# Altium schematic symbol library Infineon Transistor & Diode.SchLib: 376 symbols (part 6 of 10)
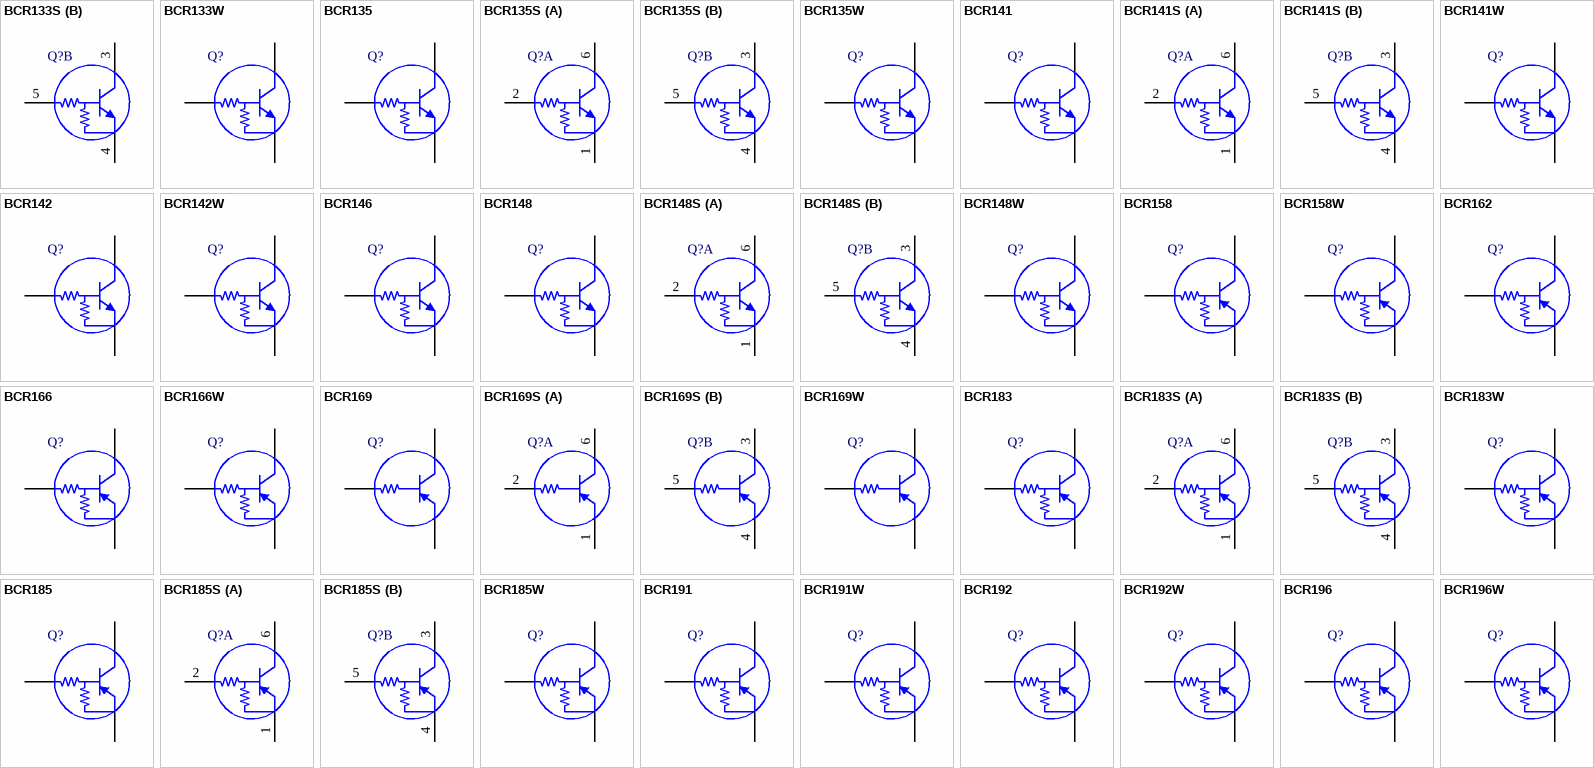
[diagram p15: symbols BCR133S to BCR196W]

## BCR166W
designator Q?
PNP Silicon Digital Transistor, 50 V VCEO, 100 mA IC, SOT323, Reel, Green; Manufacturer: Infineon; PartNumber: BCR166W; fT (typ): 160 MHz; Green: TRUE; hFE (min): 70; IC (max): 100 mA; ICBO (max): 100 nA; Ptot (max): 250 mW; R1 (typ): 4.7 kOhm; R2: 47 kOhm; VCBO (max): 50 V; VEBO (max): 5 V; Vi (off) (max): 0.8 100uA / 5V; Vi (on) (max): 1.4 V; Vi (on) (min): 0.5 2mA / 0.3V; PackageReference: SOT323; PackageDescription: 3-Pin Small Outline Transistor Package, 1.25 x 2 mm Body, 0.65 mm Pitch; Supplier 1: Mouser; Supplier Part Number 1: N/A; Halogen-free: TRUE; Packing: Reel; Polarity: PNP; VCEO (max): 50 V; Mounting Technology: Surface Mount; ComponentLink1Description: Manufacturer URL; ComponentLink1URL: http://www.infineon.com/; ComponentLink2Description: Datasheet; ComponentLink2URL: http://www.infineon.com/dgdl/bcr166series.pdf?folderId=db3a30431400ef68011406f3ddb1012e&fileId=db3a30431428a3730114402db36002d0; ComponentLink3Description: Package Specification; ComponentLink3URL: http://www.infineon.com/dgdl/SOT323-Package_Overview.pdf?folderId=db3a30431936bc4b0119533e1dcb3c92&fileId=db3a30431936bc4b011953495f283cb1
footprint INF-SOT323_N (SOT23, 3-Leads, Body 2x1.25 mm, Pitch 0.65 mm, IPC Medium Density)
footprint INF-SOT323_L (SOT23, 3-Leads, Body 2x1.25 mm, Pitch 0.65 mm, IPC High Density)
footprint INF-SOT323_M (SOT23, 3-Leads, Body 2x1.25 mm, Pitch 0.65 mm, IPC Low Density)
pins: 1 B, 2 E, 3 C

## BCR169
designator Q?
PNP Silicon Digital Transistor, 50 V VCEO, 100 mA IC, SOT23, Reel, Green; Manufacturer: Infineon; PartNumber: BCR169; fT (typ): 200 MHz; Green: TRUE; hFE (min): 120; IC (max): 100 mA; ICBO (max): 100 nA; Ptot (max): 200 mW; R1 (typ): 4.7 kOhm; VCBO (max): 50 V; VEBO (max): 5 V; Vi (off) (max): 0.8 100uA / 5V; Vi (on) (max): 1.1 V; Vi (on) (min): 0.5 2mA / 0.3V; PackageVersion: Apr-08; PackageReference: SOT23; PackageDescription: 3-Pin Small Outline Transistor Package, 1.3 x 2.9 mm Body, 0.95 mm Pitch; Supplier 1: Mouser; Supplier Part Number 1: N/A; Packing: Reel; Polarity: PNP; VCEO (max): 50 V; Mounting Technology: Surface Mount; ComponentLink1Description: Manufacturer URL; ComponentLink1URL: http://www.infineon.com/; ComponentLink2Description: Datasheet; ComponentLink2URL: http://www.infineon.com/dgdl/bcr169series.pdf?folderId=db3a30431400ef68011406f3ddb1012e&fileId=db3a30431428a373011440313bb302d1; ComponentLink3Description: Package Specification; ComponentLink3URL: http://www.infineon.com/dgdl/SOT23-Package_Overview.pdf?folderId=db3a30431936bc4b0119532290053c66&fileId=db3a30431936bc4b0119533468123c85
footprint INF-SOT23_N (SOT23, 3-Leads, Body 2.9x1.3 mm, Pitch 0.95 mm, IPC Medium Density)
footprint INF-SOT23_L (SOT23, 3-Leads, Body 2.9x1.3 mm, Pitch 0.95 mm, IPC High Density)
footprint INF-SOT23_M (SOT23, 3-Leads, Body 2.9x1.3 mm, Pitch 0.95 mm, IPC Low Density)
pins: 1 B, 2 E, 3 C

## BCR169S
designator Q?
PNP Silicon Digital Transistor, 50 V VCEO, 100 mA IC, SOT363, Reel, Green; Manufacturer: Infineon; PartNumber: BCR169S; fT (typ): 200 MHz; Green: TRUE; hFE (min): 120; IC (max): 100 mA; ICBO (max): 100 nA; Ptot (max): 250 mW; R1 (typ): 4.7 kOhm; VCBO (max): 50 V; VEBO (max): 5 V; Vi (off) (max): 0.8 100uA / 5V; Vi (on) (max): 1.1 V; Vi (on) (min): 0.5 2mA / 0.3V; PackageReference: SOT363; PackageDescription: 6-Pin Small Outline Transistor Package, 1.25 x 2 mm Body; Supplier 1: Mouser; Supplier Part Number 1: N/A; Halogen-free: TRUE; Packing: Reel; Polarity: PNP; VCEO (max): 50 V; Mounting Technology: Surface Mount; ComponentLink1Description: Manufacturer URL; ComponentLink1URL: http://www.infineon.com/; ComponentLink2Description: Datasheet; ComponentLink2URL: http://www.infineon.com/dgdl/bcr169series.pdf?folderId=db3a30431428a37301144053a52002e2&fileId=db3a30431428a37301144063498902f9; ComponentLink3Description: Package Specification; ComponentLink3URL: http://www.infineon.com/dgdl/SOT363-Package_Overview.pdf?folderId=db3a30431936bc4b01195360bd8f3cdc&fileId=db3a30431936bc4b0119536b62bf3cf5
footprint INF-SOT363_V (SOT23, 6-Leads, Body 2x1.25 mm, Pitch 0.65 mm)
part A pins: 1 E1, 2 B1, 6 C1
part B pins: 3 C2, 4 E2, 5 B2

## BCR169W
designator Q?
PNP Silicon Digital Transistor, 50 V VCEO, 100 mA IC, SOT323, Reel, Green; Manufacturer: Infineon; PartNumber: BCR169W; fT (typ): 200 MHz; Green: TRUE; hFE (min): 120; IC (max): 100 mA; ICBO (max): 100 nA; Ptot (max): 250 mW; R1 (typ): 4.7 kOhm; VCBO (max): 50 V; VEBO (max): 5 V; Vi (off) (max): 0.8 100uA / 5V; Vi (on) (max): 1.1 V; Vi (on) (min): 0.5 2mA / 0.3V; PackageReference: SOT323; PackageDescription: 3-Pin Small Outline Transistor Package, 1.25 x 2 mm Body, 0.65 mm Pitch; Supplier 1: Mouser; Supplier Part Number 1: N/A; Halogen-free: TRUE; Packing: Reel; Polarity: PNP; VCEO (max): 50 V; Mounting Technology: Surface Mount; ComponentLink1Description: Manufacturer URL; ComponentLink1URL: http://www.infineon.com/; ComponentLink2Description: Datasheet; ComponentLink2URL: http://www.infineon.com/dgdl/bcr169series.pdf?folderId=db3a30431400ef68011406f3ddb1012e&fileId=db3a30431428a373011440313bb302d1; ComponentLink3Description: Package Specification; ComponentLink3URL: http://www.infineon.com/dgdl/SOT323-Package_Overview.pdf?folderId=db3a30431936bc4b0119533e1dcb3c92&fileId=db3a30431936bc4b011953495f283cb1
footprint INF-SOT323_N (SOT23, 3-Leads, Body 2x1.25 mm, Pitch 0.65 mm, IPC Medium Density)
footprint INF-SOT323_L (SOT23, 3-Leads, Body 2x1.25 mm, Pitch 0.65 mm, IPC High Density)
footprint INF-SOT323_M (SOT23, 3-Leads, Body 2x1.25 mm, Pitch 0.65 mm, IPC Low Density)
pins: 1 B, 2 E, 3 C

## BCR183
designator Q?
PNP Silicon Digital Transistor, 50 V VCEO, 100 mA IC, SOT23, Reel, Green; Manufacturer: Infineon; PartNumber: BCR183; fT (typ): 200 MHz; Green: TRUE; hFE (min): 30; IC (max): 100 mA; ICBO (max): 100 nA; Ptot (max): 200 mW; R1 (typ): 10 kOhm; VCBO (max): 50 V; VEBO (max): 10 V; Vi (off) (max): 1.8 100uA / 5V; Vi (on) (max): 2.5 V; Vi (on) (min): 1 2mA / 0.3V; PackageVersion: Apr-08; PackageReference: SOT23; PackageDescription: 3-Pin Small Outline Transistor Package, 1.3 x 2.9 mm Body, 0.95 mm Pitch; Packing: Reel; Polarity: PNP; R2: 10 kOhm; VCEO (max): 50 V; Mounting Technology: Surface Mount; ComponentLink1Description: Manufacturer URL; ComponentLink1URL: http://www.infineon.com/; ComponentLink2Description: Datasheet; ComponentLink2URL: http://www.infineon.com/dgdl/bcr183series.pdf?folderId=db3a30431400ef68011406f3ddb1012e&fileId=db3a30431428a37301144036c8c902d3; ComponentLink3Description: Package Specification; ComponentLink3URL: http://www.infineon.com/dgdl/SOT23-Package_Overview.pdf?folderId=db3a30431936bc4b0119532290053c66&fileId=db3a30431936bc4b0119533468123c85
footprint INF-SOT23_N (SOT23, 3-Leads, Body 2.9x1.3 mm, Pitch 0.95 mm, IPC Medium Density)
footprint INF-SOT23_L (SOT23, 3-Leads, Body 2.9x1.3 mm, Pitch 0.95 mm, IPC High Density)
footprint INF-SOT23_M (SOT23, 3-Leads, Body 2.9x1.3 mm, Pitch 0.95 mm, IPC Low Density)
pins: 1 B, 2 E, 3 C

## BCR183S
designator Q?
PNP Silicon Digital Transistor, 50 V VCEO, 100 mA IC, SOT363, Reel, Green; Manufacturer: Infineon; PartNumber: BCR183S; fT (typ): 200 MHz; Green: TRUE; hFE (min): 30; IC (max): 100 mA; ICBO (max): 100 nA; Ptot (max): 250 mW; R1 (typ): 10 kOhm; VCBO (max): 50 V; VEBO (max): 10 V; Vi (off) (max): 1.8 100uA / 5V; Vi (on) (max): 2.5 V; Vi (on) (min): 1 2mA / 0.3V; PackageReference: SOT363; PackageDescription: 6-Pin Small Outline Transistor Package, 1.25 x 2 mm Body; Supplier 1: Mouser; Supplier Part Number 1: N/A; Halogen-free: TRUE; Packing: Reel; Polarity: PNP; R2: 10 kOhm; VCEO (max): 50 V; Mounting Technology: Surface Mount; ComponentLink1Description: Manufacturer URL; ComponentLink1URL: http://www.infineon.com/; ComponentLink2Description: Datasheet; ComponentLink2URL: http://www.infineon.com/dgdl/bcr183series.pdf?folderId=db3a30431428a37301144053a52002e2&fileId=db3a30431428a3730114406488c302fa; ComponentLink3Description: Package Specification; ComponentLink3URL: http://www.infineon.com/dgdl/SOT363-Package_Overview.pdf?folderId=db3a30431936bc4b01195360bd8f3cdc&fileId=db3a30431936bc4b0119536b62bf3cf5
footprint INF-SOT363_V (SOT23, 6-Leads, Body 2x1.25 mm, Pitch 0.65 mm)
part A pins: 1 E1, 2 B1, 6 C1
part B pins: 3 C2, 4 E2, 5 B2

## BCR183W
designator Q?
PNP Silicon Digital Transistor, 50 V VCEO, 100 mA IC, SOT323, Reel, Green; Manufacturer: Infineon; PartNumber: BCR183W; fT (typ): 200 MHz; Green: TRUE; hFE (min): 30; IC (max): 100 mA; ICBO (max): 100 nA; Ptot (max): 250 mW; R1 (typ): 10 kOhm; VCBO (max): 50 V; VEBO (max): 10 V; Vi (off) (max): 1.8 100uA / 5V; Vi (on) (max): 2.5 V; Vi (on) (min): 1 2mA / 0.3V; PackageReference: SOT323; PackageDescription: 3-Pin Small Outline Transistor Package, 1.25 x 2 mm Body, 0.65 mm Pitch; Supplier 1: Mouser; Supplier Part Number 1: N/A; Halogen-free: TRUE; Packing: Reel; Polarity: PNP; R2: 10 kOhm; VCEO (max): 50 V; Mounting Technology: Surface Mount; ComponentLink1Description: Manufacturer URL; ComponentLink1URL: http://www.infineon.com/; ComponentLink2Description: Datasheet; ComponentLink2URL: http://www.infineon.com/dgdl/bcr183series.pdf?folderId=db3a30431400ef68011406f3ddb1012e&fileId=db3a30431428a37301144036c8c902d3; ComponentLink3Description: Package Specification; ComponentLink3URL: http://www.infineon.com/dgdl/SOT323-Package_Overview.pdf?folderId=db3a30431936bc4b0119533e1dcb3c92&fileId=db3a30431936bc4b011953495f283cb1
footprint INF-SOT323_N (SOT23, 3-Leads, Body 2x1.25 mm, Pitch 0.65 mm, IPC Medium Density)
footprint INF-SOT323_L (SOT23, 3-Leads, Body 2x1.25 mm, Pitch 0.65 mm, IPC High Density)
footprint INF-SOT323_M (SOT23, 3-Leads, Body 2x1.25 mm, Pitch 0.65 mm, IPC Low Density)
pins: 1 B, 2 E, 3 C

## BCR185
designator Q?
PNP Silicon Digital Transistor, 50 V VCEO, 100 mA IC, SOT23, Reel, Green; Manufacturer: Infineon; PartNumber: BCR185; fT (typ): 200 MHz; Green: TRUE; hFE (min): 70; IC (max): 100 mA; ICBO (max): 100 nA; Ptot (max): 200 mW; R1 (typ): 10 kOhm; R2: 47 kOhm; VCBO (max): 50 V; VEBO (max): 6 V; Vi (off) (max): 1 100uA / 5V; Vi (on) (max): 1.4 V; Vi (on) (min): 0.5 2mA / 0.3V; PackageVersion: Apr-08; PackageReference: SOT23; PackageDescription: 3-Pin Small Outline Transistor Package, 1.3 x 2.9 mm Body, 0.95 mm Pitch; Packing: Reel; Polarity: PNP; VCEO (max): 50 V; Mounting Technology: Surface Mount; ComponentLink1Description: Manufacturer URL; ComponentLink1URL: http://www.infineon.com/; ComponentLink2Description: Datasheet; ComponentLink2URL: http://www.infineon.com/dgdl/bcr185series.pdf?folderId=db3a30431400ef68011406f3ddb1012e&fileId=db3a30431428a3730114403af22402d4; ComponentLink3Description: Package Specification; ComponentLink3URL: http://www.infineon.com/dgdl/SOT23-Package_Overview.pdf?folderId=db3a30431936bc4b0119532290053c66&fileId=db3a30431936bc4b0119533468123c85
footprint INF-SOT23_N (SOT23, 3-Leads, Body 2.9x1.3 mm, Pitch 0.95 mm, IPC Medium Density)
footprint INF-SOT23_L (SOT23, 3-Leads, Body 2.9x1.3 mm, Pitch 0.95 mm, IPC High Density)
footprint INF-SOT23_M (SOT23, 3-Leads, Body 2.9x1.3 mm, Pitch 0.95 mm, IPC Low Density)
pins: 1 B, 2 E, 3 C

## BCR185S
designator Q?
PNP Silicon Digital Transistor, 50 V VCEO, 100 mA IC, SOT363, Reel, Green; Manufacturer: Infineon; PartNumber: BCR185S; fT (typ): 200 MHz; Green: TRUE; hFE (min): 70; IC (max): 100 mA; ICBO (max): 100 nA; Ptot (max): 250 mW; R1 (typ): 10 kOhm; R2: 47 kOhm; VCBO (max): 50 V; VEBO (max): 6 V; Vi (off) (max): 1 100uA / 5V; Vi (on) (max): 1.4 V; Vi (on) (min): 0.5 2mA / 0.3V; PackageReference: SOT363; PackageDescription: 6-Pin Small Outline Transistor Package, 1.25 x 2 mm Body; Supplier 1: Mouser; Supplier Part Number 1: N/A; Halogen-free: TRUE; Packing: Reel; Polarity: PNP; VCEO (max): 50 V; Mounting Technology: Surface Mount; ComponentLink1Description: Manufacturer URL; ComponentLink1URL: http://www.infineon.com/; ComponentLink2Description: Datasheet; ComponentLink2URL: http://www.infineon.com/dgdl/bcr185series.pdf?folderId=db3a30431428a37301144053a52002e2&fileId=db3a30431428a373011440662aab02fb; ComponentLink3Description: Package Specification; ComponentLink3URL: http://www.infineon.com/dgdl/SOT363-Package_Overview.pdf?folderId=db3a30431936bc4b01195360bd8f3cdc&fileId=db3a30431936bc4b0119536b62bf3cf5
footprint INF-SOT363_V (SOT23, 6-Leads, Body 2x1.25 mm, Pitch 0.65 mm)
part A pins: 1 E1, 2 B1, 6 C1
part B pins: 3 C2, 4 E2, 5 B2

## BCR185W
designator Q?
PNP Silicon Digital Transistor, 50 V VCEO, 100 mA IC, SOT323, Reel, Green; Manufacturer: Infineon; PartNumber: BCR185W; fT (typ): 200 MHz; Green: TRUE; hFE (min): 70; IC (max): 100 mA; ICBO (max): 100 nA; Ptot (max): 250 mW; R1 (typ): 10 kOhm; R2: 47 kOhm; VCBO (max): 50 V; VEBO (max): 6 V; Vi (off) (max): 1 100uA / 5V; Vi (on) (max): 1.4 V; Vi (on) (min): 0.5 2mA / 0.3V; PackageReference: SOT323; PackageDescription: 3-Pin Small Outline Transistor Package, 1.25 x 2 mm Body, 0.65 mm Pitch; Supplier 1: Mouser; Supplier Part Number 1: N/A; Halogen-free: TRUE; Packing: Reel; Polarity: PNP; VCEO (max): 50 V; Mounting Technology: Surface Mount; ComponentLink1Description: Manufacturer URL; ComponentLink1URL: http://www.infineon.com/; ComponentLink2Description: Datasheet; ComponentLink2URL: http://www.infineon.com/dgdl/bcr185series.pdf?folderId=db3a30431400ef68011406f3ddb1012e&fileId=db3a30431428a3730114403af22402d4; ComponentLink3Description: Package Specification; ComponentLink3URL: http://www.infineon.com/dgdl/SOT323-Package_Overview.pdf?folderId=db3a30431936bc4b0119533e1dcb3c92&fileId=db3a30431936bc4b011953495f283cb1
footprint INF-SOT323_N (SOT23, 3-Leads, Body 2x1.25 mm, Pitch 0.65 mm, IPC Medium Density)
footprint INF-SOT323_L (SOT23, 3-Leads, Body 2x1.25 mm, Pitch 0.65 mm, IPC High Density)
footprint INF-SOT323_M (SOT23, 3-Leads, Body 2x1.25 mm, Pitch 0.65 mm, IPC Low Density)
pins: 1 B, 2 E, 3 C

## BCR191
designator Q?
PNP Silicon Digital Transistor, 50 V VCEO, 100 mA IC, SOT23, Reel, Green; Manufacturer: Infineon; PartNumber: BCR191; fT (typ): 200 MHz; Green: TRUE; hFE (min): 50; IC (max): 100 mA; ICBO (max): 100 nA; Ptot (max): 200 mW; R1 (typ): 22 kOhm; VCBO (max): 50 V; VEBO (max): 10 V; Vi (off) (max): 1.5 100uA / 5V; Vi (on) (max): 2.5 V; Vi (on) (min): 1 2mA / 0.3V; PackageVersion: Apr-08; PackageReference: SOT23; PackageDescription: 3-Pin Small Outline Transistor Package, 1.3 x 2.9 mm Body, 0.95 mm Pitch; Supplier 1: Mouser; Supplier Part Number 1: N/A; Packing: Reel; Polarity: PNP; R2: 22 kOhm; VCEO (max): 50 V; Mounting Technology: Surface Mount; ComponentLink1Description: Manufacturer URL; ComponentLink1URL: http://www.infineon.com/; ComponentLink2Description: Datasheet; ComponentLink2URL: http://www.infineon.com/dgdl/bcr191series.pdf?folderId=db3a30431400ef68011406f3ddb1012e&fileId=db3a30431428a3730114404180e802d7; ComponentLink3Description: Package Specification; ComponentLink3URL: http://www.infineon.com/dgdl/SOT23-Package_Overview.pdf?folderId=db3a30431936bc4b0119532290053c66&fileId=db3a30431936bc4b0119533468123c85
footprint INF-SOT23_N (SOT23, 3-Leads, Body 2.9x1.3 mm, Pitch 0.95 mm, IPC Medium Density)
footprint INF-SOT23_L (SOT23, 3-Leads, Body 2.9x1.3 mm, Pitch 0.95 mm, IPC High Density)
footprint INF-SOT23_M (SOT23, 3-Leads, Body 2.9x1.3 mm, Pitch 0.95 mm, IPC Low Density)
pins: 1 B, 2 E, 3 C

## BCR191W
designator Q?
PNP Silicon Digital Transistor, 50 V VCEO, 100 mA IC, SOT323, Reel, Green; Manufacturer: Infineon; PartNumber: BCR191W; fT (typ): 200 MHz; Green: TRUE; hFE (min): 50; IC (max): 100 mA; ICBO (max): 100 nA; Ptot (max): 250 mW; R1 (typ): 22 kOhm; VCBO (max): 50 V; VEBO (max): 10 V; Vi (off) (max): 1.5 100uA / 5V; Vi (on) (max): 2.5 V; Vi (on) (min): 1 2mA / 0.3V; PackageReference: SOT323; PackageDescription: 3-Pin Small Outline Transistor Package, 1.25 x 2 mm Body, 0.65 mm Pitch; Supplier 1: Mouser; Supplier Part Number 1: N/A; Halogen-free: TRUE; Packing: Reel; Polarity: PNP; R2: 22 kOhm; VCEO (max): 50 V; Mounting Technology: Surface Mount; ComponentLink1Description: Manufacturer URL; ComponentLink1URL: http://www.infineon.com/; ComponentLink2Description: Datasheet; ComponentLink2URL: http://www.infineon.com/dgdl/bcr191series.pdf?folderId=db3a30431400ef68011406f3ddb1012e&fileId=db3a30431428a3730114404180e802d7; ComponentLink3Description: Package Specification; ComponentLink3URL: http://www.infineon.com/dgdl/SOT323-Package_Overview.pdf?folderId=db3a30431936bc4b0119533e1dcb3c92&fileId=db3a30431936bc4b011953495f283cb1
footprint INF-SOT323_N (SOT23, 3-Leads, Body 2x1.25 mm, Pitch 0.65 mm, IPC Medium Density)
footprint INF-SOT323_L (SOT23, 3-Leads, Body 2x1.25 mm, Pitch 0.65 mm, IPC High Density)
footprint INF-SOT323_M (SOT23, 3-Leads, Body 2x1.25 mm, Pitch 0.65 mm, IPC Low Density)
pins: 1 B, 2 E, 3 C

## BCR192
designator Q?
PNP Silicon Digital Transistor, 50 V VCEO, 100 mA IC, SOT23, Reel, Green; Manufacturer: Infineon; PartNumber: BCR192; fT (typ): 200 MHz; Green: TRUE; hFE (min): 70; IC (max): 100 mA; ICBO (max): 100 nA; Ptot (max): 200 mW; R1 (typ): 22 kOhm; R2: 47 kOhm; VCBO (max): 50 V; Vi (off) (max): 1.2 100uA / 5V; Vi (on) (max): 2.5 V; Vi (on) (min): 0.8 2mA / 0.3V; PackageVersion: Apr-08; PackageReference: SOT23; PackageDescription: 3-Pin Small Outline Transistor Package, 1.3 x 2.9 mm Body, 0.95 mm Pitch; Supplier 1: Mouser; Supplier Part Number 1: N/A; Packing: Reel; Polarity: PNP; VCEO (max): 50 V; VEBO (max): 50 V; Mounting Technology: Surface Mount; ComponentLink1Description: Manufacturer URL; ComponentLink1URL: http://www.infineon.com/; ComponentLink2Description: Datasheet; ComponentLink2URL: http://www.infineon.com/dgdl/bcr192series.pdf?folderId=db3a30431400ef68011406f3ddb1012e&fileId=db3a30431428a37301144044a95702da; ComponentLink3Description: Package Specification; ComponentLink3URL: http://www.infineon.com/dgdl/SOT23-Package_Overview.pdf?folderId=db3a30431936bc4b0119532290053c66&fileId=db3a30431936bc4b0119533468123c85
footprint INF-SOT23_N (SOT23, 3-Leads, Body 2.9x1.3 mm, Pitch 0.95 mm, IPC Medium Density)
footprint INF-SOT23_L (SOT23, 3-Leads, Body 2.9x1.3 mm, Pitch 0.95 mm, IPC High Density)
footprint INF-SOT23_M (SOT23, 3-Leads, Body 2.9x1.3 mm, Pitch 0.95 mm, IPC Low Density)
pins: 1 B, 2 E, 3 C

## BCR192W
designator Q?
PNP Silicon Digital Transistor, 50 V VCEO, 100 mA IC, SOT323, Reel, Green; Manufacturer: Infineon; PartNumber: BCR192W; fT (typ): 200 MHz; Green: TRUE; hFE (min): 70; IC (max): 100 mA; ICBO (max): 100 nA; Ptot (max): 250 mW; R1 (typ): 22 kOhm; R2: 47 kOhm; VCBO (max): 50 V; Vi (off) (max): 1.2 100uA / 5V; Vi (on) (max): 2.5 V; Vi (on) (min): 0.8 2mA / 0.3V; PackageReference: SOT323; PackageDescription: 3-Pin Small Outline Transistor Package, 1.25 x 2 mm Body, 0.65 mm Pitch; Supplier 1: Mouser; Supplier Part Number 1: N/A; Halogen-free: TRUE; Packing: Reel; Polarity: PNP; VCEO (max): 50 V; VEBO (max): 50 V; Mounting Technology: Surface Mount; ComponentLink1Description: Manufacturer URL; ComponentLink1URL: http://www.infineon.com/; ComponentLink2Description: Datasheet; ComponentLink2URL: http://www.infineon.com/dgdl/bcr192series.pdf?folderId=db3a30431400ef68011406f3ddb1012e&fileId=db3a30431428a37301144044a95702da; ComponentLink3Description: Package Specification; ComponentLink3URL: http://www.infineon.com/dgdl/SOT323-Package_Overview.pdf?folderId=db3a30431936bc4b0119533e1dcb3c92&fileId=db3a30431936bc4b011953495f283cb1
footprint INF-SOT323_N (SOT23, 3-Leads, Body 2x1.25 mm, Pitch 0.65 mm, IPC Medium Density)
footprint INF-SOT323_L (SOT23, 3-Leads, Body 2x1.25 mm, Pitch 0.65 mm, IPC High Density)
footprint INF-SOT323_M (SOT23, 3-Leads, Body 2x1.25 mm, Pitch 0.65 mm, IPC Low Density)
pins: 1 B, 2 E, 3 C

## BCR196
designator Q?
PNP Silicon Digital Transistor, 50 V VCEO, 70 mA IC, SOT23, Reel, Green; Manufacturer: Infineon; PartNumber: BCR196; fT (typ): 150 MHz; Green: TRUE; hFE (min): 50; IC (max): 70 mA; ICBO (max): 100 nA; Ptot (max): 200 mW; R1 (typ): 47 kOhm; R2: 22 kOhm; VCBO (max): 50 V; VEBO (max): 10 V; Vi (off) (max): 2.6 100uA / 5V; Vi (on) (max): 4 V; Vi (on) (min): 1.5 2mA / 0.3V; PackageVersion: Apr-08; PackageReference: SOT23; PackageDescription: 3-Pin Small Outline Transistor Package, 1.3 x 2.9 mm Body, 0.95 mm Pitch; Packing: Reel; Polarity: PNP; VCEO (max): 50 V; Mounting Technology: Surface Mount; ComponentLink1Description: Manufacturer URL; ComponentLink1URL: http://www.infineon.com/; ComponentLink2Description: Datasheet; ComponentLink2URL: http://www.infineon.com/dgdl/bcr196series.pdf?folderId=db3a30431400ef68011406f3ddb1012e&fileId=db3a30431428a37301144048156b02db; ComponentLink3Description: Package Specification; ComponentLink3URL: http://www.infineon.com/dgdl/SOT23-Package_Overview.pdf?folderId=db3a30431936bc4b0119532290053c66&fileId=db3a30431936bc4b0119533468123c85
footprint INF-SOT23_N (SOT23, 3-Leads, Body 2.9x1.3 mm, Pitch 0.95 mm, IPC Medium Density)
footprint INF-SOT23_L (SOT23, 3-Leads, Body 2.9x1.3 mm, Pitch 0.95 mm, IPC High Density)
footprint INF-SOT23_M (SOT23, 3-Leads, Body 2.9x1.3 mm, Pitch 0.95 mm, IPC Low Density)
pins: 1 B, 2 E, 3 C

## BCR196W
designator Q?
PNP Silicon Digital Transistor, 50 V VCEO, 70 mA IC, SOT323, Reel, Green; Manufacturer: Infineon; PartNumber: BCR196W; fT (typ): 150 MHz; Green: TRUE; hFE (min): 50; IC (max): 70 mA; ICBO (max): 100 nA; Ptot (max): 250 mW; R1 (typ): 47 kOhm; R2: 22 kOhm; VCBO (max): 50 V; VEBO (max): 10 V; Vi (off) (max): 2.6 100uA / 5V; Vi (on) (max): 4 V; Vi (on) (min): 1.5 2mA / 0.3V; PackageReference: SOT323; PackageDescription: 3-Pin Small Outline Transistor Package, 1.25 x 2 mm Body, 0.65 mm Pitch; Supplier 1: Mouser; Supplier Part Number 1: N/A; Halogen-free: TRUE; Packing: Reel; Polarity: PNP; VCEO (max): 50 V; Mounting Technology: Surface Mount; ComponentLink1Description: Manufacturer URL; ComponentLink1URL: http://www.infineon.com/; ComponentLink2Description: Datasheet; ComponentLink2URL: http://www.infineon.com/dgdl/bcr196series.pdf?folderId=db3a30431f848401011fcbf2ab4c04c4&fileId=db3a3043293a15c4012944dd91b053a3; ComponentLink3Description: Package Specification; ComponentLink3URL: http://www.infineon.com/dgdl/SOT323-Package_Overview.pdf?folderId=db3a30431936bc4b0119533e1dcb3c92&fileId=db3a30431936bc4b011953495f283cb1
footprint INF-SOT323_N (SOT23, 3-Leads, Body 2x1.25 mm, Pitch 0.65 mm, IPC Medium Density)
footprint INF-SOT323_L (SOT23, 3-Leads, Body 2x1.25 mm, Pitch 0.65 mm, IPC High Density)
footprint INF-SOT323_M (SOT23, 3-Leads, Body 2x1.25 mm, Pitch 0.65 mm, IPC Low Density)
pins: 1 B, 2 E, 3 C

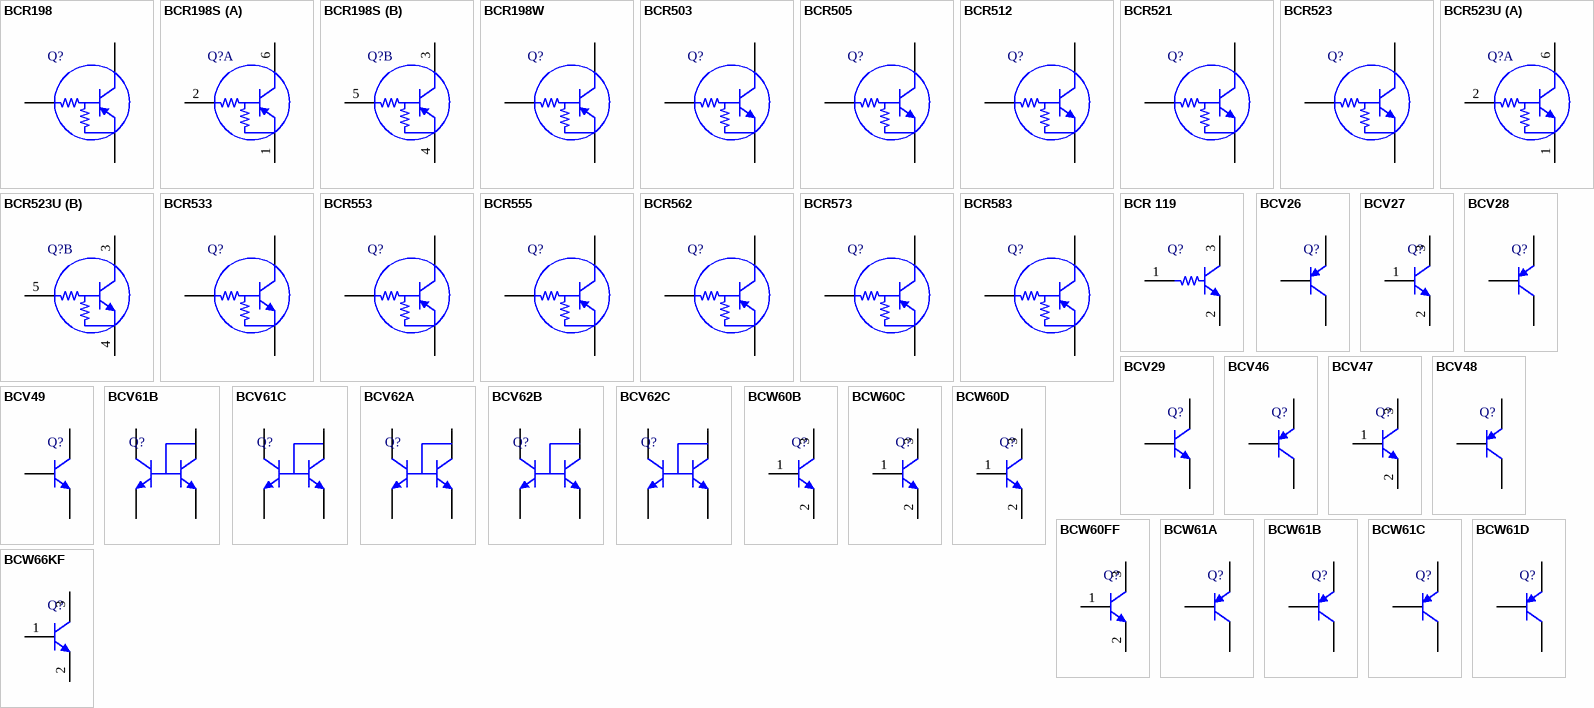
[diagram p6: symbols BCR198 to BCW66KF]

## BCR198
designator Q?
PNP Silicon Digital Transistor, 50 V VCEO, 100 mA IC, SOT23, Reel, Green; Manufacturer: Infineon; PartNumber: BCR198; fT (typ): 190 MHz; Green: TRUE; hFE (min): 70; IC (max): 100 mA; ICBO (max): 100 nA; Ptot (max): 200 mW; R1 (typ): 47 kOhm; VCBO (max): 50 V; VEBO (max): 10 V; Vi (off) (max): 1.5 100uA / 5V; Vi (on) (max): 3 V; Vi (on) (min): 1 2mA / 0.3V; PackageVersion: Apr-08; PackageReference: SOT23; PackageDescription: 3-Pin Small Outline Transistor Package, 1.3 x 2.9 mm Body, 0.95 mm Pitch; Packing: Reel; Polarity: PNP; R2: 47 kOhm; VCEO (max): 50 V; Mounting Technology: Surface Mount; ComponentLink1Description: Manufacturer URL; ComponentLink1URL: http://www.infineon.com/; ComponentLink2Description: Datasheet; ComponentLink2URL: http://www.infineon.com/dgdl/bcr198series.pdf?folderId=db3a30431f848401011fcbf2ab4c04c4&fileId=db3a304320d39d590121e8552c2f65bb; ComponentLink3Description: Package Specification; ComponentLink3URL: http://www.infineon.com/dgdl/SOT23-Package_Overview.pdf?folderId=db3a30431936bc4b0119532290053c66&fileId=db3a30431936bc4b0119533468123c85
footprint INF-SOT23_N (SOT23, 3-Leads, Body 2.9x1.3 mm, Pitch 0.95 mm, IPC Medium Density)
footprint INF-SOT23_L (SOT23, 3-Leads, Body 2.9x1.3 mm, Pitch 0.95 mm, IPC High Density)
footprint INF-SOT23_M (SOT23, 3-Leads, Body 2.9x1.3 mm, Pitch 0.95 mm, IPC Low Density)
pins: 1 B, 2 E, 3 C

## BCR198S
designator Q?
PNP Silicon Digital Transistor, 50 V VCEO, 100 mA IC, SOT363, Reel, Green; Manufacturer: Infineon; PartNumber: BCR198S; fT (typ): 190 MHz; Green: TRUE; hFE (min): 70; IC (max): 100 mA; ICBO (max): 100 nA; Ptot (max): 250 mW; R1 (typ): 47 kOhm; VCBO (max): 50 V; VEBO (max): 10 V; Vi (off) (max): 1.5 100uA / 5V; Vi (on) (max): 3 V; Vi (on) (min): 1 2mA / 0.3V; PackageReference: SOT363; PackageDescription: 6-Pin Small Outline Transistor Package, 1.25 x 2 mm Body; Supplier 1: Mouser; Supplier Part Number 1: N/A; Halogen-free: TRUE; Packing: Reel; Polarity: PNP; R2: 47 kOhm; VCEO (max): 50 V; Mounting Technology: Surface Mount; ComponentLink1Description: Manufacturer URL; ComponentLink1URL: http://www.infineon.com/; ComponentLink2Description: Datasheet; ComponentLink2URL: http://www.infineon.com/dgdl/bcr198series.pdf?folderId=db3a30431428a37301144053a52002e2&fileId=db3a30431428a373011440674b1d02fc; ComponentLink3Description: Package Specification; ComponentLink3URL: http://www.infineon.com/dgdl/SOT363-Package_Overview.pdf?folderId=db3a30431936bc4b01195360bd8f3cdc&fileId=db3a30431936bc4b0119536b62bf3cf5
footprint INF-SOT363_V (SOT23, 6-Leads, Body 2x1.25 mm, Pitch 0.65 mm)
part A pins: 1 E1, 2 B1, 6 C1
part B pins: 3 C2, 4 E2, 5 B2

## BCR198W
designator Q?
PNP Silicon Digital Transistor, 50 V VCEO, 100 mA IC, SOT323, Reel, Green; Manufacturer: Infineon; PartNumber: BCR198W; fT (typ): 190 MHz; Green: TRUE; hFE (min): 70; IC (max): 100 mA; ICBO (max): 100 nA; Ptot (max): 250 mW; R1 (typ): 47 kOhm; VCBO (max): 50 V; VEBO (max): 10 V; Vi (off) (max): 1.5 100uA / 5V; Vi (on) (max): 3 V; Vi (on) (min): 1 2mA / 0.3V; PackageReference: SOT323; PackageDescription: 3-Pin Small Outline Transistor Package, 1.25 x 2 mm Body, 0.65 mm Pitch; Supplier 1: Mouser; Supplier Part Number 1: N/A; Halogen-free: TRUE; Packing: Reel; Polarity: PNP; R2: 47 kOhm; VCEO (max): 50 V; Mounting Technology: Surface Mount; ComponentLink1Description: Manufacturer URL; ComponentLink1URL: http://www.infineon.com/; ComponentLink2Description: Datasheet; ComponentLink2URL: http://www.infineon.com/dgdl/bcr198series.pdf?folderId=db3a30431f848401011fcbf2ab4c04c4&fileId=db3a304320d39d590121e8552c2f65bb; ComponentLink3Description: Package Specification; ComponentLink3URL: http://www.infineon.com/dgdl/SOT323-Package_Overview.pdf?folderId=db3a30431936bc4b0119533e1dcb3c92&fileId=db3a30431936bc4b011953495f283cb1
footprint INF-SOT323_N (SOT23, 3-Leads, Body 2x1.25 mm, Pitch 0.65 mm, IPC Medium Density)
footprint INF-SOT323_L (SOT23, 3-Leads, Body 2x1.25 mm, Pitch 0.65 mm, IPC High Density)
footprint INF-SOT323_M (SOT23, 3-Leads, Body 2x1.25 mm, Pitch 0.65 mm, IPC Low Density)
pins: 1 B, 2 E, 3 C

## BCR503
designator Q?
NPN Silicon Digital Transistor, 50 V VCEO, 500 mA IC, SOT23, Reel, Green; Manufacturer: Infineon; PartNumber: BCR503; fT (typ): 100 MHz; Green: TRUE; hFE (min): 40; IC (max): 500 mA; ICBO (max): 100 nA; Ptot (max): 330 mW; R1 (typ): 2.2 kOhm; VCBO (max): 50 V; VEBO (max): 10 V; Vi (off) (max): 1.5 100uA / 5V; Vi (on) (max): 1.8 V; Vi (on) (min): 1 10mA / 0.3V; PackageVersion: Apr-08; PackageReference: SOT23; PackageDescription: 3-Pin Small Outline Transistor Package, 1.3 x 2.9 mm Body, 0.95 mm Pitch; Supplier 1: Mouser; Supplier Part Number 1: N/A; Packing: Reel; Polarity: NPN; R2: 2.2 kOhm; VCEO (max): 50 V; Mounting Technology: Surface Mount; ComponentLink1Description: Manufacturer URL; ComponentLink1URL: http://www.infineon.com/; ComponentLink2Description: Datasheet; ComponentLink2URL: http://www.infineon.com/dgdl/bcr503.pdf?folderId=db3a30431428a373011440769fd70304&fileId=db3a30431428a3730114407759130305; ComponentLink3Description: Package Specification; ComponentLink3URL: http://www.infineon.com/dgdl/SOT23-Package_Overview.pdf?folderId=db3a30431936bc4b0119532290053c66&fileId=db3a30431936bc4b0119533468123c85
footprint INF-SOT23_N (SOT23, 3-Leads, Body 2.9x1.3 mm, Pitch 0.95 mm, IPC Medium Density)
footprint INF-SOT23_L (SOT23, 3-Leads, Body 2.9x1.3 mm, Pitch 0.95 mm, IPC High Density)
footprint INF-SOT23_M (SOT23, 3-Leads, Body 2.9x1.3 mm, Pitch 0.95 mm, IPC Low Density)
pins: 1 B, 2 E, 3 C

## BCR505
designator Q?
NPN Silicon Digital Transistor, 50 V VCEO, 500 mA IC, SOT23, Reel, Green; Manufacturer: Infineon; PartNumber: BCR505; fT (typ): 100 MHz; Green: TRUE; hFE (min): 70; IC (max): 500 mA; ICBO (max): 100 nA; Ptot (max): 330 mW; R1 (typ): 2.2 kOhm; R2: 10 kOhm; VCBO (max): 50 V; VEBO (max): 5 V; Vi (off) (max): 1 100uA / 5V; Vi (on) (max): 1.4 V; Vi (on) (min): 0.5 10mA / 0.3V; PackageVersion: Apr-08; PackageReference: SOT23; PackageDescription: 3-Pin Small Outline Transistor Package, 1.3 x 2.9 mm Body, 0.95 mm Pitch; Supplier 1: Mouser; Supplier Part Number 1: N/A; Packing: Reel; Polarity: NPN; VCEO (max): 50 V; Mounting Technology: Surface Mount; ComponentLink1Description: Manufacturer URL; ComponentLink1URL: http://www.infineon.com/; ComponentLink2Description: Datasheet; ComponentLink2URL: http://www.infineon.com/dgdl/bcr505.pdf?folderId=db3a30431428a373011440769fd70304&fileId=db3a30431428a3730114407910280306; ComponentLink3Description: Package Specification; ComponentLink3URL: http://www.infineon.com/dgdl/SOT23-Package_Overview.pdf?folderId=db3a30431936bc4b0119532290053c66&fileId=db3a30431936bc4b0119533468123c85
footprint INF-SOT23_N (SOT23, 3-Leads, Body 2.9x1.3 mm, Pitch 0.95 mm, IPC Medium Density)
footprint INF-SOT23_L (SOT23, 3-Leads, Body 2.9x1.3 mm, Pitch 0.95 mm, IPC High Density)
footprint INF-SOT23_M (SOT23, 3-Leads, Body 2.9x1.3 mm, Pitch 0.95 mm, IPC Low Density)
pins: 1 B, 2 E, 3 C

## BCR512
designator Q?
NPN Silicon Digital Transistor, 50 V VCEO, 500 mA IC, SOT23, Reel, Green; Manufacturer: Infineon; PartNumber: BCR512; fT (typ): 100 MHz; Green: TRUE; hFE (min): 60; IC (max): 500 mA; ICBO (max): 100 nA; Ptot (max): 330 mW; R1 (typ): 4.7 kOhm; VCBO (max): 50 V; VEBO (max): 10 V; Vi (off) (max): 1.5 100uA / 5V; Vi (on) (max): 2.2 V; Vi (on) (min): 1 10mA / 0.3V; PackageVersion: Apr-08; PackageReference: SOT23; PackageDescription: 3-Pin Small Outline Transistor Package, 1.3 x 2.9 mm Body, 0.95 mm Pitch; Supplier 1: Mouser; Supplier Part Number 1: N/A; Packing: Reel; Polarity: NPN; R2: 4.7 kOhm; VCEO (max): 50 V; Mounting Technology: Surface Mount; ComponentLink1Description: Manufacturer URL; ComponentLink1URL: http://www.infineon.com/; ComponentLink2Description: Datasheet; ComponentLink2URL: http://www.infineon.com/dgdl/bcr512.pdf?folderId=db3a30431428a373011440769fd70304&fileId=db3a30431428a3730114407a48ac0307; ComponentLink3Description: Package Specification; ComponentLink3URL: http://www.infineon.com/dgdl/SOT23-Package_Overview.pdf?folderId=db3a30431936bc4b0119532290053c66&fileId=db3a30431936bc4b0119533468123c85
footprint INF-SOT23_N (SOT23, 3-Leads, Body 2.9x1.3 mm, Pitch 0.95 mm, IPC Medium Density)
footprint INF-SOT23_L (SOT23, 3-Leads, Body 2.9x1.3 mm, Pitch 0.95 mm, IPC High Density)
footprint INF-SOT23_M (SOT23, 3-Leads, Body 2.9x1.3 mm, Pitch 0.95 mm, IPC Low Density)
pins: 1 B, 2 E, 3 C

## BCR521
designator Q?
NPN Silicon Digital Transistor, 50 V VCEO, 500 mA IC, SOT23, Reel, Green; Manufacturer: Infineon; PartNumber: BCR521; fT (typ): 100 MHz; Green: TRUE; hFE (min): 20; IC (max): 500 mA; ICBO (max): 100 nA; Ptot (max): 330 mW; R1 (typ): 1 kOhm; VCBO (max): 50 V; VEBO (max): 10 V; Vi (off) (max): 1.5 100uA / 5V; Vi (on) (max): 1.8 V; Vi (on) (min): 1 10mA / 0.3V; PackageVersion: Apr-08; PackageReference: SOT23; PackageDescription: 3-Pin Small Outline Transistor Package, 1.3 x 2.9 mm Body, 0.95 mm Pitch; Supplier 1: Mouser; Supplier Part Number 1: N/A; Packing: Reel; Polarity: NPN; R2: 1 kOhm; VCEO (max): 50 V; Mounting Technology: Surface Mount; ComponentLink1Description: Manufacturer URL; ComponentLink1URL: http://www.infineon.com/; ComponentLink2Description: Datasheet; ComponentLink2URL: http://www.infineon.com/dgdl/bcr521.pdf?folderId=db3a30431428a373011440769fd70304&fileId=db3a30431428a3730114407b78610308; ComponentLink3Description: Package Specification; ComponentLink3URL: http://www.infineon.com/dgdl/SOT23-Package_Overview.pdf?folderId=db3a30431936bc4b0119532290053c66&fileId=db3a30431936bc4b0119533468123c85
footprint INF-SOT23_N (SOT23, 3-Leads, Body 2.9x1.3 mm, Pitch 0.95 mm, IPC Medium Density)
footprint INF-SOT23_L (SOT23, 3-Leads, Body 2.9x1.3 mm, Pitch 0.95 mm, IPC High Density)
footprint INF-SOT23_M (SOT23, 3-Leads, Body 2.9x1.3 mm, Pitch 0.95 mm, IPC Low Density)
pins: 1 B, 2 E, 3 C

## BCR523
designator Q?
NPN Silicon Digital Transistor, 50 V VCEO, 500 mA IC, SOT23, Reel, Green; Manufacturer: Infineon; PartNumber: BCR523; fT (typ): 100 MHz; Green: TRUE; hFE (min): 70; IC (max): 500 mA; ICBO (max): 100 nA; Ptot (max): 330 mW; R1 (typ): 1 kOhm; R2: 10 kOhm; VCBO (max): 50 V; VEBO (max): 5 V; Vi (off) (max): 1 100uA / 5V; Vi (on) (max): 1.4 V; Vi (on) (min): 0.4 10mA / 0.3V; PackageVersion: Apr-08; PackageReference: SOT23; PackageDescription: 3-Pin Small Outline Transistor Package, 1.3 x 2.9 mm Body, 0.95 mm Pitch; Supplier 1: Mouser; Supplier Part Number 1: N/A; Supplier 2: Newark; Supplier Part Number 2: 25M7676; Supplier 3: Farnell; Supplier Part Number 3: 1156452; Supplier 4: Farnell; Supplier Part Number 4: 1156452RL; Packing: Reel; Polarity: NPN; VCEO (max): 50 V; Mounting Technology: Surface Mount; ComponentLink1Description: Manufacturer URL; ComponentLink1URL: http://www.infineon.com/; ComponentLink2Description: Datasheet; ComponentLink2URL: http://www.infineon.com/dgdl/bcr523series.pdf?folderId=db3a30431428a373011440769fd70304&fileId=db3a30431428a3730114407c929c0309; ComponentLink3Description: Package Specification; ComponentLink3URL: http://www.infineon.com/dgdl/SOT23-Package_Overview.pdf?folderId=db3a30431936bc4b0119532290053c66&fileId=db3a30431936bc4b0119533468123c85
footprint INF-SOT23_N (SOT23, 3-Leads, Body 2.9x1.3 mm, Pitch 0.95 mm, IPC Medium Density)
footprint INF-SOT23_L (SOT23, 3-Leads, Body 2.9x1.3 mm, Pitch 0.95 mm, IPC High Density)
footprint INF-SOT23_M (SOT23, 3-Leads, Body 2.9x1.3 mm, Pitch 0.95 mm, IPC Low Density)
pins: 1 B, 2 E, 3 C

## BCR523U
designator Q?
NPN Silicon Digital Transistor, 50 V VCEO, 500 mA IC, SC74, Reel, Green; Manufacturer: Infineon; PartNumber: BCR523U; fT (typ): 100 MHz; Green: TRUE; hFE (min): 70; IC (max): 500 mA; ICBO (max): 100 nA; Ptot (max): 330 mW; R1 (typ): 1 kOhm; R2: 10 kOhm; VCBO (max): 50 V; VEBO (max): 5 V; Vi (off) (max): 1.0 100uA / 5V; Vi (on) (max): 1.4 V; Vi (on) (min): 0.4 2mA / 0.3V; PackageVersion: Apr-08; PackageReference: SC74; PackageDescription: 6-Pin Semiconductor Package, 2.9 x 1.6 mm Body, 0.95 mm Pitch; Supplier 1: Mouser; Supplier Part Number 1: N/A; Packing: Reel; Polarity: NPN; VCEO (max): 50 V; Mounting Technology: Surface Mount; ComponentLink1Description: Manufacturer URL; ComponentLink1URL: http://www.infineon.com/; ComponentLink2Description: Datasheet; ComponentLink2URL: http://www.infineon.com/dgdl/bcr523series.pdf?folderId=db3a30431428a373011440769fd70304&fileId=db3a30431428a3730114407c929c0309; ComponentLink3Description: Package Specification; ComponentLink3URL: http://www.infineon.com/dgdl/SC74-Package_Overview.pdf?folderId=db3a30431936bc4b01194dec844f40d9&fileId=db3a30431936bc4b01195175d46e3ab3
footprint INF-SC74_N (SOT23, 6-Leads, Body 2.9x1.6mm, Pitch 0.95mm, IPC Medium Density)
footprint INF-SC74_L (SOT23, 6-Leads, Body 2.9x1.6mm, Pitch 0.95mm, IPC High Density)
footprint INF-SC74_M (SOT23, 6-Leads, Body 2.9x1.6mm, Pitch 0.95mm, IPC Low Density)
part A pins: 1 E1, 2 B1, 6 C1
part B pins: 3 C2, 4 E2, 5 B2

## BCR533
designator Q?
NPN Silicon Digital Transistor, 50 V VCEO, 500 mA IC, SOT23, Reel, Green; Manufacturer: Infineon; PartNumber: BCR533; fT (typ): 100 MHz; Green: TRUE; hFE (min): 70; IC (max): 500 mA; ICBO (max): 100 nA; Ptot (max): 330 mW; R1 (typ): 10 kOhm; VCBO (max): 50 V; VEBO (max): 10 V; Vi (off) (max): 1.5 100uA / 5V; Vi (on) (max): 2.5 V; Vi (on) (min): 1 10mA / 0.3V; PackageVersion: Apr-08; PackageReference: SOT23; PackageDescription: 3-Pin Small Outline Transistor Package, 1.3 x 2.9 mm Body, 0.95 mm Pitch; Supplier 1: Mouser; Supplier Part Number 1: N/A; Packing: Reel; Polarity: NPN; R2: 10 kOhm; VCEO (max): 50 V; Mounting Technology: Surface Mount; ComponentLink1Description: Manufacturer URL; ComponentLink1URL: http://www.infineon.com/; ComponentLink2Description: Datasheet; ComponentLink2URL: http://www.infineon.com/dgdl/bcr533.pdf?folderId=db3a30431428a3730114407566730303&fileId=db3a30431428a3730114407da25d030a; ComponentLink3Description: Package Specification; ComponentLink3URL: http://www.infineon.com/dgdl/SOT23-Package_Overview.pdf?folderId=db3a30431936bc4b0119532290053c66&fileId=db3a30431936bc4b0119533468123c85
footprint INF-SOT23_N (SOT23, 3-Leads, Body 2.9x1.3 mm, Pitch 0.95 mm, IPC Medium Density)
footprint INF-SOT23_L (SOT23, 3-Leads, Body 2.9x1.3 mm, Pitch 0.95 mm, IPC High Density)
footprint INF-SOT23_M (SOT23, 3-Leads, Body 2.9x1.3 mm, Pitch 0.95 mm, IPC Low Density)
pins: 1 B, 2 E, 3 C

## BCR553
designator Q?
PNP Silicon Digital Transistor, 50 V VCEO, 500 mA IC, SOT23, Reel, Green; Manufacturer: Infineon; PartNumber: BCR553; fT (typ): 150 MHz; Green: TRUE; hFE (min): 40; IC (max): 500 mA; ICBO (max): 100 nA; Ptot (max): 330 mW; R1 (typ): 2.2 kOhm; VCBO (max): 50 V; VEBO (max): 10 V; Vi (off) (max): 1.5 100uA / 5V; Vi (on) (max): 1.8 V; Vi (on) (min): 1 10mA / 0.3V; PackageVersion: Apr-08; PackageReference: SOT23; PackageDescription: 3-Pin Small Outline Transistor Package, 1.3 x 2.9 mm Body, 0.95 mm Pitch; Supplier 1: Mouser; Supplier Part Number 1: N/A; Packing: Reel; Polarity: PNP; R2: 2.2 kOhm; VCEO (max): 50 V; Mounting Technology: Surface Mount; ComponentLink1Description: Manufacturer URL; ComponentLink1URL: http://www.infineon.com/; ComponentLink2Description: Datasheet; ComponentLink2URL: http://www.infineon.com/dgdl/bcr553.pdf?folderId=db3a30431428a373011440769fd70304&fileId=db3a30431428a37301144080e0fd030b; ComponentLink3Description: Package Specification; ComponentLink3URL: http://www.infineon.com/dgdl/SOT23-Package_Overview.pdf?folderId=db3a30431936bc4b0119532290053c66&fileId=db3a30431936bc4b0119533468123c85
footprint INF-SOT23_N (SOT23, 3-Leads, Body 2.9x1.3 mm, Pitch 0.95 mm, IPC Medium Density)
footprint INF-SOT23_L (SOT23, 3-Leads, Body 2.9x1.3 mm, Pitch 0.95 mm, IPC High Density)
footprint INF-SOT23_M (SOT23, 3-Leads, Body 2.9x1.3 mm, Pitch 0.95 mm, IPC Low Density)
pins: 1 B, 2 E, 3 C

## BCR555
designator Q?
PNP Silicon Digital Transistor, 50 V VCEO, 500 mA IC, SOT23, Reel, Green; Manufacturer: Infineon; PartNumber: BCR555; fT (typ): 150 MHz; Green: TRUE; hFE (min): 70; IC (max): 500 mA; ICBO (max): 100 nA; Ptot (max): 330 mW; R1 (typ): 2.2 kOhm; R2: 10 kOhm; VCBO (max): 50 V; VEBO (max): 5 V; Vi (off) (max): 1 100uA / 5V; Vi (on) (max): 1.4 V; Vi (on) (min): 0.5 10mA / 0.3V; PackageVersion: Apr-08; PackageReference: SOT23; PackageDescription: 3-Pin Small Outline Transistor Package, 1.3 x 2.9 mm Body, 0.95 mm Pitch; Supplier 1: Mouser; Supplier Part Number 1: N/A; Packing: Reel; Polarity: PNP; VCEO (max): 50 V; Mounting Technology: Surface Mount; ComponentLink1Description: Manufacturer URL; ComponentLink1URL: http://www.infineon.com/; ComponentLink2Description: Datasheet; ComponentLink2URL: http://www.infineon.com/dgdl/bcr555.pdf?folderId=db3a30431428a3730114407566730303&fileId=db3a30431428a37301144081dc82030c; ComponentLink3Description: Package Specification; ComponentLink3URL: http://www.infineon.com/dgdl/SOT23-Package_Overview.pdf?folderId=db3a30431936bc4b0119532290053c66&fileId=db3a30431936bc4b0119533468123c85
footprint INF-SOT23_N (SOT23, 3-Leads, Body 2.9x1.3 mm, Pitch 0.95 mm, IPC Medium Density)
footprint INF-SOT23_L (SOT23, 3-Leads, Body 2.9x1.3 mm, Pitch 0.95 mm, IPC High Density)
footprint INF-SOT23_M (SOT23, 3-Leads, Body 2.9x1.3 mm, Pitch 0.95 mm, IPC Low Density)
pins: 1 B, 2 E, 3 C

## BCR562
designator Q?
PNP Silicon Digital Transistor, 50 V VCEO, 500 mA IC, SOT23, Reel, Green; Manufacturer: Infineon; PartNumber: BCR562; fT (typ): 150 MHz; Green: TRUE; hFE (min): 60; IC (max): 500 mA; ICBO (max): 100 nA; Ptot (max): 330 mW; R1 (typ): 4.7 kOhm; VCBO (max): 50 V; VEBO (max): 10 V; Vi (off) (max): 1.5 100uA / 5V; Vi (on) (max): 2.2 V; Vi (on) (min): 1 10mA / 0.3V; PackageVersion: Apr-08; PackageReference: SOT23; PackageDescription: 3-Pin Small Outline Transistor Package, 1.3 x 2.9 mm Body, 0.95 mm Pitch; Supplier 1: Mouser; Supplier Part Number 1: N/A; Packing: Reel; Polarity: PNP; R2: 4.7 kOhm; VCEO (max): 50 V; Mounting Technology: Surface Mount; ComponentLink1Description: Manufacturer URL; ComponentLink1URL: http://www.infineon.com/; ComponentLink2Description: Datasheet; ComponentLink2URL: http://www.infineon.com/dgdl/bcr562.pdf?folderId=db3a30431428a3730114407566730303&fileId=db3a30431428a37301144082f4ed030d; ComponentLink3Description: Package Specification; ComponentLink3URL: http://www.infineon.com/dgdl/SOT23-Package_Overview.pdf?folderId=db3a30431936bc4b0119532290053c66&fileId=db3a30431936bc4b0119533468123c85
footprint INF-SOT23_N (SOT23, 3-Leads, Body 2.9x1.3 mm, Pitch 0.95 mm, IPC Medium Density)
footprint INF-SOT23_L (SOT23, 3-Leads, Body 2.9x1.3 mm, Pitch 0.95 mm, IPC High Density)
footprint INF-SOT23_M (SOT23, 3-Leads, Body 2.9x1.3 mm, Pitch 0.95 mm, IPC Low Density)
pins: 1 B, 2 E, 3 C

## BCR573
designator Q?
PNP Silicon Digital Transistor, 50 V VCEO, 500 mA IC, SOT23, Reel, Green; Manufacturer: Infineon; PartNumber: BCR573; fT (typ): 150 MHz; Green: TRUE; hFE (min): 70; IC (max): 500 mA; ICBO (max): 100 nA; Ptot (max): 330 mW; R1 (typ): 1 kOhm; R2: 10 kOhm; VCBO (max): 50 V; VEBO (max): 5 V; Vi (off) (max): 1 100uA / 5V; Vi (on) (max): 1.4 V; Vi (on) (min): 0.4 10mA / 0.3V; PackageVersion: Apr-08; PackageReference: SOT23; PackageDescription: 3-Pin Small Outline Transistor Package, 1.3 x 2.9 mm Body, 0.95 mm Pitch; Supplier 1: Mouser; Supplier Part Number 1: N/A; Packing: Reel; Polarity: PNP; VCEO (max): 50 V; Mounting Technology: Surface Mount; ComponentLink1Description: Manufacturer URL; ComponentLink1URL: http://www.infineon.com/; ComponentLink2Description: Datasheet; ComponentLink2URL: http://www.infineon.com/dgdl/bcr573.pdf?folderId=db3a30431428a373011440769fd70304&fileId=db3a30431428a373011440841409030e; ComponentLink3Description: Package Specification; ComponentLink3URL: http://www.infineon.com/dgdl/SOT23-Package_Overview.pdf?folderId=db3a30431936bc4b0119532290053c66&fileId=db3a30431936bc4b0119533468123c85
footprint INF-SOT23_N (SOT23, 3-Leads, Body 2.9x1.3 mm, Pitch 0.95 mm, IPC Medium Density)
footprint INF-SOT23_L (SOT23, 3-Leads, Body 2.9x1.3 mm, Pitch 0.95 mm, IPC High Density)
footprint INF-SOT23_M (SOT23, 3-Leads, Body 2.9x1.3 mm, Pitch 0.95 mm, IPC Low Density)
pins: 1 B, 2 E, 3 C

## BCR583
designator Q?
PNP Silicon Digital Transistor, 50 V VCEO, 500 mA IC, SOT23, Reel, Green; Manufacturer: Infineon; PartNumber: BCR583; fT (typ): 150 MHz; Green: TRUE; hFE (min): 70; IC (max): 500 mA; ICBO (max): 100 nA; Ptot (max): 330 mW; R1 (typ): 10 kOhm; VCBO (max): 50 V; VEBO (max): 10 V; Vi (off) (max): 1.5 100uA / 5V; Vi (on) (max): 2.5 V; Vi (on) (min): 1.1 10mA / 0.3V; PackageVersion: Apr-08; PackageReference: SOT23; PackageDescription: 3-Pin Small Outline Transistor Package, 1.3 x 2.9 mm Body, 0.95 mm Pitch; Supplier 1: Mouser; Supplier Part Number 1: N/A; Packing: Reel; Polarity: PNP; R2: 10 kOhm; VCEO (max): 50 V; Mounting Technology: Surface Mount; ComponentLink1Description: Manufacturer URL; ComponentLink1URL: http://www.infineon.com/; ComponentLink2Description: Datasheet; ComponentLink2URL: http://www.infineon.com/dgdl/bcr583.pdf?folderId=db3a30431428a373011440769fd70304&fileId=db3a30431428a3730114408538a1030f; ComponentLink3Description: Package Specification; ComponentLink3URL: http://www.infineon.com/dgdl/SOT23-Package_Overview.pdf?folderId=db3a30431936bc4b0119532290053c66&fileId=db3a30431936bc4b0119533468123c85
footprint INF-SOT23_N (SOT23, 3-Leads, Body 2.9x1.3 mm, Pitch 0.95 mm, IPC Medium Density)
footprint INF-SOT23_L (SOT23, 3-Leads, Body 2.9x1.3 mm, Pitch 0.95 mm, IPC High Density)
footprint INF-SOT23_M (SOT23, 3-Leads, Body 2.9x1.3 mm, Pitch 0.95 mm, IPC Low Density)
pins: 1 B, 2 E, 3 C

## BCR 119
designator Q?
NPN Silicon Digital Transistor, SOT23, Reel, Green; Manufacturer: Infineon; PartNumber: BCR 119; Green: TRUE; hFE (min): 120; PackageVersion: Apr-08; PackageReference: SOT23; PackageDescription: 3-Pin Small Outline Transistor Package, 1.3 x 2.9 mm Body, 0.95 mm Pitch; Halogen-free: FALSE; Polarity: NPN; Mounting Technology: Surface Mount; ComponentLink1Description: Manufacturer URL; ComponentLink1URL: http://www.infineon.com/; ComponentLink2Description: Datasheet; ComponentLink2URL: http://www.infineon.com/dgdl/bcr119series.pdf?folderId=db3a30431400ef68011406f3ddb1012e&fileId=db3a30431428a37301143f643b380286; ComponentLink3Description: Package Specification; ComponentLink3URL: http://www.infineon.com/dgdl/smbta14_mmbta14.pdf?folderId=db3a30431441fb5d011445c30f210183&fileId=db3a30431441fb5d011445ef0201018c
footprint INF-SOT23_N (SOT23, 3-Leads, Body 2.9x1.3 mm, Pitch 0.95 mm, IPC Medium Density)
footprint INF-SOT23_L (SOT23, 3-Leads, Body 2.9x1.3 mm, Pitch 0.95 mm, IPC High Density)
footprint INF-SOT23_M (SOT23, 3-Leads, Body 2.9x1.3 mm, Pitch 0.95 mm, IPC Low Density)
pins: 1 B, 2 E, 3 C

## BCV26
designator Q?
PNP Silicon Darlington Transistor, 30 V VCEO, 500 mA IC, SOT23, Reel, Green; Manufacturer: Infineon; PartNumber: BCV26; fT (typ): 200 MHz; Green: TRUE; hFE (min): 4000; IC: 100 mA; IC (max): 500 mA; ICBO (max): 10 uA; ICM (max): 800 mA; VCBO (max): 40 V; VCE: 5 V; VCEO (max): 30 V; VEBO (max): 10 V; PackageVersion: Apr-08; PackageReference: SOT23; PackageDescription: 3-Pin Small Outline Transistor Package, 1.3 x 2.9 mm Body, 0.95 mm Pitch; Packing: Reel; Polarity: PNP; Mounting Technology: Surface Mount; ComponentLink1Description: Manufacturer URL; ComponentLink1URL: http://www.infineon.com/; ComponentLink2Description: Datasheet; ComponentLink2URL: http://www.infineon.com/dgdl/bcv26_bcv46.pdf?folderId=db3a30431441fb5d011445c30f210183&fileId=db3a30431441fb5d011445cddad90187; ComponentLink3Description: Package Specification; ComponentLink3URL: http://www.infineon.com/dgdl/SOT23-Package_Overview.pdf?folderId=db3a30431936bc4b0119532290053c66&fileId=db3a30431936bc4b0119533468123c85
footprint INF-SOT23_N (SOT23, 3-Leads, Body 2.9x1.3 mm, Pitch 0.95 mm, IPC Medium Density)
footprint INF-SOT23_L (SOT23, 3-Leads, Body 2.9x1.3 mm, Pitch 0.95 mm, IPC High Density)
footprint INF-SOT23_M (SOT23, 3-Leads, Body 2.9x1.3 mm, Pitch 0.95 mm, IPC Low Density)
pins: 1 B, 2 E, 3 C

## BCV27
designator Q?
NPN Silicon Darlington Transistor, 30 V VCEO, 500 mA IC, SOT23, Reel, Green; Manufacturer: Infineon; PartNumber: BCV27; fT (typ): 170 MHz; Green: TRUE; hFE (min): 4000; IC: 100 mA; IC (max): 500 mA; ICBO (max): 10 uA; ICM (max): 800 mA; VCBO (max): 40 V; VCE: 5 V; VCEO (max): 30 V; VEBO (max): 10 V; PackageVersion: Apr-08; PackageReference: SOT23; PackageDescription: 3-Pin Small Outline Transistor Package, 1.3 x 2.9 mm Body, 0.95 mm Pitch; Packing: Reel; Polarity: NPN; Mounting Technology: Surface Mount; ComponentLink1Description: Manufacturer URL; ComponentLink1URL: http://www.infineon.com/; ComponentLink2Description: Datasheet; ComponentLink2URL: http://www.infineon.com/dgdl/bcv27_bcv47.pdf?folderId=db3a30431441fb5d011445c30f210183&fileId=db3a30431441fb5d011445cf7c3b0188; ComponentLink3Description: Package Specification; ComponentLink3URL: http://www.infineon.com/dgdl/SOT23-Package_Overview.pdf?folderId=db3a30431936bc4b0119532290053c66&fileId=db3a30431936bc4b0119533468123c85
footprint INF-SOT23_N (SOT23, 3-Leads, Body 2.9x1.3 mm, Pitch 0.95 mm, IPC Medium Density)
footprint INF-SOT23_L (SOT23, 3-Leads, Body 2.9x1.3 mm, Pitch 0.95 mm, IPC High Density)
footprint INF-SOT23_M (SOT23, 3-Leads, Body 2.9x1.3 mm, Pitch 0.95 mm, IPC Low Density)
pins: 1 B, 2 E, 3 C

## BCV28
designator Q?
PNP Silicon Darlington Transistor, 30 V VCEO, 500 mA IC, SOT89, Reel, Green; Manufacturer: Infineon; PartNumber: BCV28; fT (typ): 200 MHz; Green: TRUE; hFE (min): 4000; IC: 100 mA; IC (max): 500 mA; ICBO (max): 10 uA; ICM (max): 800 mA; VCBO (max): 40 V; VCE: 5 V; VCEO (max): 30 V; VEBO (max): 10 V; PackageVersion: Apr-08; PackageReference: SOT89 (SC-62); PackageDescription: 3-Pin Small Outline Transistor Package, 4.5 x 2.5 mm Body, 1.5 mm Pitch; Packing: Reel; Polarity: PNP; Mounting Technology: Surface Mount; ComponentLink1Description: Manufacturer URL; ComponentLink1URL: http://www.infineon.com/; ComponentLink2Description: Datasheet; ComponentLink2URL: http://www.infineon.com/dgdl/bcv28_bcv48.pdf?folderId=db3a30431441fb5d011445c30f210183&fileId=db3a30431441fb5d011445c71a9d0185; ComponentLink3Description: Package Specification; ComponentLink3URL: http://www.infineon.com/dgdl/SOT89-Package_Overview.pdf?folderId=db3a30431936bc4b01195371b8363cff&fileId=db3a30431936bc4b0119537ed61d3d22
footprint INF-SOT89_SC-62_N (SOT89, 3-Leads, Body 4.5x2.5mm, Pitch 1.5mm, IPC Medium Density)
footprint INF-SOT89_SC-62_L (SOT89, 3-Leads, Body 4.5x2.5mm, Pitch 1.5mm, IPC High Density)
footprint INF-SOT89_SC-62_M (SOT89, 3-Leads, Body 4.5x2.5mm, Pitch 1.5mm, IPC Low Density)
pins: 1 B, 2 C, 3 E